# Altium footprint library PcbLib1.PcbLib: 8 footprints
Each footprint in its own frame and in the unit in brackets; x right, y up, seen from the top. Pads: shape width x height; smd on the part's side, far side on the other; paste and mask are expansions set on the pad; w line width, h text height; cw(c..) or ccw(c..) is an arc to the next point about the centre after c.
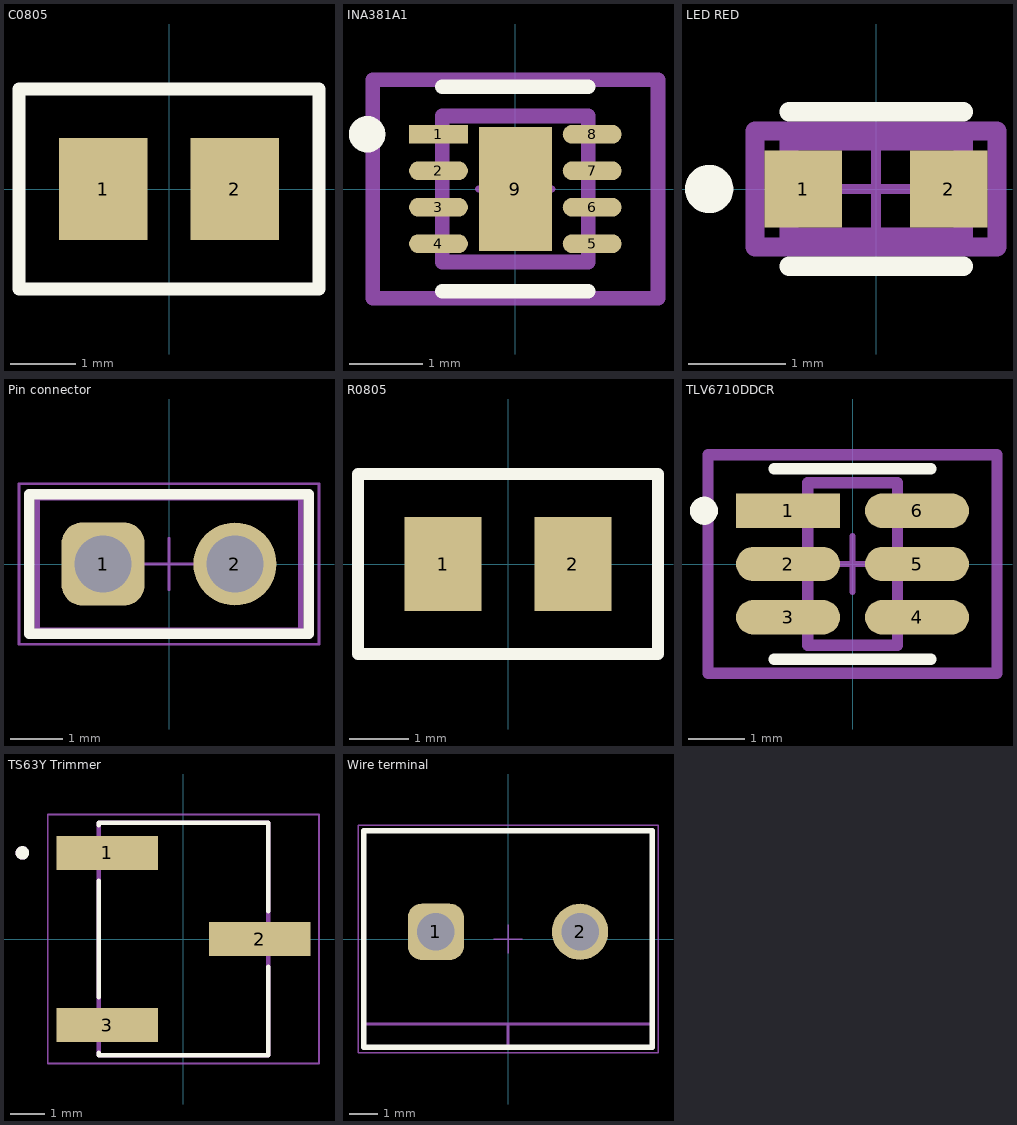
[diagram p0: the footprints below, top view; thin cyan lines are the x and y axes]

## C0805 [mm]
pads (2):
  rect 1.35x1.55 smd: 1(-1,0) 2(1,0)
Top Overlay:
  lines w0.2: -2.286,-1.524 2.286,-1.524 2.286,1.524 -2.286,1.524 -2.286,-1.524

## INA381A1 [mm]
pads (9):
  rect 0.806x0.257 smd paste+0 mask+0: 1(-1.053,0.75)
  rrect100% 0.806x0.257 smd paste+0 mask+0: 2(-1.053,0.25) 3(-1.053,-0.25) 4(-1.053,-0.75) 5(1.053,-0.75) 6(1.053,-0.25) 7(1.053,0.25) 8(1.053,0.75)
  rect 1x1.7 smd paste-1000 mask+0: 9(0,0)
Top Overlay:
  circle w0.25: c-2.031,0.75 r0.125
  lines w0.2: -1,-1.4 1,-1.4 ; -1,1.4 1,1.4
Top Paste:
  rectangle: -0.273,-0.623 0.273,0.623
Top Assembly:
  lines w0.2: -1.956,-1.5 1.956,-1.5 1.956,1.5 -1.956,1.5 -1.956,-1.5
  text ".Designator" at 0,-0.001 h1
Top 3D Body:
  lines w0.2: -1,-1 1,-1 1,1 -1,1 -1,-1
Top Courtyard:
  lines w0.2: -1.956,-1.5 1.956,-1.5 1.956,1.5 -1.956,1.5 -1.956,-1.5
Top Component Center:
  lines w0.1: -0.5,0 0.5,0 ; 0,-0.5 0,0.5
3D body "IC_Texas_Instruments_OPA2170AIDSGR_eec.STEP": height 0.25, standoff 0, extent -1.956,-1.5 1.956,1.5

## LED RED [mm]
pads (2):
  rect 0.8x0.8 smd paste+0 mask+0: 1(-0.75,0) 2(0.75,0)
Top Overlay:
  circle w0.25: c-1.725,0 r0.125
  lines w0.2: -0.9,-0.8 0.9,-0.8 ; -0.9,0.8 0.9,0.8
Top Assembly:
  lines w0.2: -1.25,-0.6 -1.25,0.6 1.25,0.6 1.25,-0.6 -1.25,-0.6
  text ".Designator" at 0,-0.001 h1
Top 3D Body:
  lines w0.2: -0.9,-0.5 -0.9,0.5 0.9,0.5 0.9,-0.5 -0.9,-0.5
Top Courtyard:
  lines w0.2: -1.25,-0.6 -1.25,0.6 1.25,0.6 1.25,-0.6 -1.25,-0.6
Top Component Center:
  lines w0.1: -0.5,0 0.5,0 ; 0,-0.5 0,0.5
3D body "Diode_Vishay_VLMY1300-GS08_eec.STEP": height 0.25, standoff 0, extent -1.25,-0.6 1.25,0.6

## Pin connector [mm]
pads (2):
  rrect50% 1.6x1.6 hole 1.1: 1(-1.27,0)
  round 1.6 hole 1.1: 2(1.27,0)
Top Overlay:
  lines w0.2: -2.69,-1.345 2.69,-1.345 2.69,1.345 -2.69,1.345 -2.69,-1.345
Top Designator:
  text ".Designator" at -7.498,-0.5 h1.5
Top Component Outline:
  lines w0.1: -2.54,-1.27 -2.54,1.27 2.54,1.27 2.54,-1.27 -2.54,-1.27
Top 3D Body:
  lines w0.1: -2.54,-1.27 -2.54,1.27 2.54,1.27 2.54,-1.27 -2.54,-1.27
Top Courtyard:
  lines w0.05: -0.5,0 0.5,0 ; 0,-0.5 0,0.5 ; -2.89,-1.545 -2.89,1.545 2.89,1.545 2.89,-1.545 -2.89,-1.545
3D body "61300211121.stp": height 8.57, standoff -2.97, extent -2.54,-1.27 2.54,1.27

## R0805 [mm]
pads (2):
  rect 1.3x1.6 smd: 1(-1.1,0) 2(1.1,0)
Top Overlay:
  lines w0.2: -2.54,-1.524 2.54,-1.524 2.54,1.524 -2.54,1.524 -2.54,-1.524

## TLV6710DDCR [mm]
pads (6):
  rect 1.854x0.612 smd paste+0 mask+0: 1(-1.15,0.95)
  rrect100% 1.854x0.612 smd paste+0 mask+0: 2(-1.15,0) 3(-1.15,-0.95) 4(1.15,-0.95) 5(1.15,0) 6(1.15,0.95)
Top Overlay:
  circle w0.25: c-2.65,0.95 r0.125
  lines w0.2: -1.4,-1.7 1.4,-1.7 ; -1.4,1.7 1.4,1.7
Top Assembly:
  lines w0.2: -2.577,-1.95 -2.577,1.95 2.577,1.95 2.577,-1.95 -2.577,-1.95
  text ".Designator" at 0,0.188 h1
Top 3D Body:
  lines w0.2: -0.8,-1.45 -0.8,1.45 0.8,1.45 0.8,-1.45 -0.8,-1.45
Top Courtyard:
  lines w0.2: -2.577,-1.95 -2.577,1.95 2.577,1.95 2.577,-1.95 -2.577,-1.95
Top Component Center:
  lines w0.1: -0.5,0 0.5,0 ; 0,-0.5 0,0.5
3D body "IC_Texas_Instruments_TPS562201DDCT_eec.STEP": height 0.25, standoff 0, extent -2.577,-1.95 2.577,1.95

## TS63Y Trimmer [mm]
pads (3):
  rect 3x1 smd: 1(-2.25,2.54) 2(2.25,0) 3(-2.25,-2.54)
Top Overlay:
  circle w0.2: c-4.75,2.54 r0.1
  lines w0.127: -2.5,-3.36 -2.5,-3.425 2.5,-3.425 2.5,-0.82 ; -2.5,-1.72 -2.5,1.72 ; -2.5,3.36 -2.5,3.425 2.5,3.425 2.5,0.82
Top 3D Body:
  circle w0.2: c-4.75,2.54 r0.1
  lines w0.127: -2.5,-3.425 2.5,-3.425 2.5,3.425 -2.5,3.425 -2.5,-3.425
Top Courtyard:
  lines w0.05: -4,-3.675 4,-3.675 4,3.675 -4,3.675 -4,-3.675
3D body "step_temp.STEP": height 8, standoff 0, extent -3.35,-3.425 3.35,3.425

## Wire terminal [mm]
pads (2):
  rrect50% 1.95x1.95 hole 1.3: 1(-2.5,0.25)
  round 1.95 hole 1.3: 2(2.5,0.25)
Top Overlay:
  lines w0.2: -5,-3.75 -5,3.75 5,3.75 5,-3.75 -5,-3.75
Top Designator:
  text ".Designator" at -7.498,-0.5 h1.5
Top Component Outline:
  lines w0.1: -5,-2.95 5,-2.95 ; 0,-3.75 0,-2.95 ; -5,-3.75 5,-3.75 5,3.75 -5,3.75 -5,-3.75
Top 3D Body:
  lines w0.1: -5,-2.95 5,-2.95 ; 0,-3.75 0,-2.95 ; -5,-3.75 -5,3.75 5,3.75 5,-3.75 -5,-3.75
Top Courtyard:
  lines w0.05: -5.2,-3.95 -5.2,3.95 5.2,3.95 5.2,-3.95 -5.2,-3.95
Bottom Courtyard:
  lines w0.05: -0.5,0 0.5,0 ; 0,-0.5 0,0.5
3D body "691137710002.stp": height 11.6, standoff -3.5, extent -5,-3.75 5,3.75